# EAGLE library part NDC7002N (library transistor-fet)
Dual N-Channel Enhancement Mode Field Effect Transistor
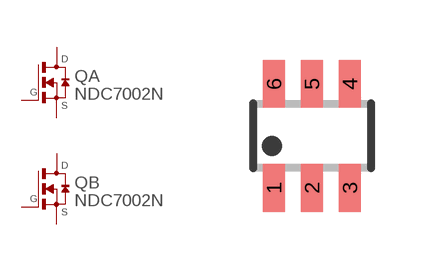
[diagram p9: symbol with the pads of SSOT-6; footprint SSOT-6]

Designator prefix Q; gates A=EMOS-ND B=EMOS-ND

## NDC7002N  [SSOT-6]
1  A:G  pas
2  B:S  pas
3  B:G  pas
4  B:D  pas
5  A:S  pas
6  A:D  pas

## Footprint SSOT-6 (pad centres in mm)
Small Outline Transistor
smd 0.55 x 1.2: 1 -0.95,-1.3; 2 0,-1.3; 3 0.95,-1.3; 4 0.95,1.3; 5 0,1.3; 6 -0.95,1.3